# EAGLE library part 6N138S-TA1 (library 6N138S-TA1)
High Speed Optocouplers Darlington 100KBd Transistor Output Source: Datasheet <https://componentsearchengine.com/Datasheets/1/6N138S-TA1.pdf>
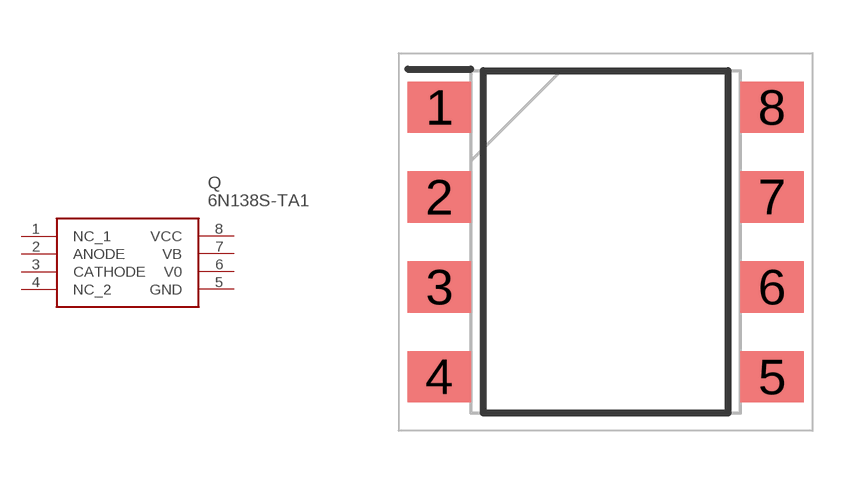
[diagram p0: symbol with the pads of SOP254P1016X460-8N; footprint SOP254P1016X460-8N]

Designator prefix Q

## 6N138S-TA1 (Description: High Speed Optocouplers Darlington 100KBd Transistor Output; Height: 4.6mm; Manufacturer_Name: Lite-On; Manufacturer_Part_Number: 6N138S-TA1)  [SOP254P1016X460-8N]
1  NC_1
2  ANODE
3  CATHODE
4  NC_2
5  GND  pwr
6  V0
7  VB
8  VCC  pwr

## Footprint SOP254P1016X460-8N (pad centres in mm)
Lite-On
smd 1.79 x 1.45: 1 -4.705,3.81; 2 -4.705,1.27; 3 -4.705,-1.27; 4 -4.705,-3.81; 5 4.705,-3.81; 6 4.705,-1.27; 7 4.705,1.27; 8 4.705,3.81